# EAGLE library part YB-ESP32-S3-DRV (library yb-esp32-s3-drv)
Yellobyte YB-ESP32-S3-DRV (ESP32S3 8-channel driver development board) Source: github.com/yellobyte <https://github.com/yellobyte/ESP32-DevBoards-Getting-Started/tree/main/boards/YB-ESP32-S3-DRV>
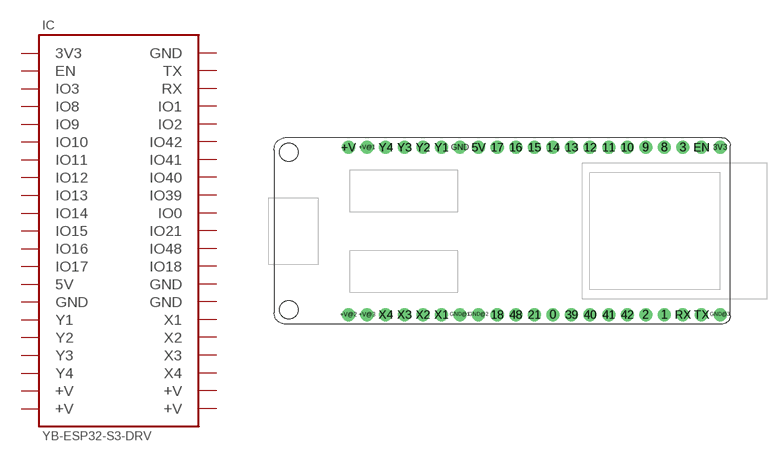
[diagram p0: symbol with the pads of YB-ESP32-S3-DRV; footprint YB-ESP32-S3-DRV]

Designator prefix IC

## YB-ESP32-S3-DRV  [YB-ESP32-S3-DRV]
0  IO0
1  IO1
2  IO2
3  IO3
3V3  3V3  pwr
5V  5V  pwr
8  IO8
9  IO9
10  IO10
11  IO11
12  IO12
13  IO13
14  IO14
15  IO15
16  IO16
17  IO17
18  IO18
21  IO21
39  IO39
40  IO40
41  IO41
42  IO42
48  IO48
+V  +V  pwr
+V@1  +V  pwr
+V@2  +V  pwr
+V@3  +V  pwr
EN  EN
GND  GND  pwr
GND@1  GND  pwr
GND@2  GND  pwr
GND@3  GND  pwr
RX  RX
TX  TX
X1  X1  pwr
X2  X2  pwr
X3  X3  pwr
X4  X4  pwr
Y1  Y1  pwr
Y2  Y2  pwr
Y3  Y3  pwr
Y4  Y4  pwr

## Footprint YB-ESP32-S3-DRV (pad centres in mm)
drill 1.016 pad 1.778: 0 38.097,1.265; 1 53.337,1.265; 2 50.797,1.265; 3 55.877,24.125; 3V3 60.957,24.125; 5V 27.937,24.125; 8 53.337,24.125; 9 50.797,24.125; 10 48.257,24.125; 11 45.717,24.125; 12 43.177,24.125; 13 40.637,24.125; 14 38.097,24.125; 15 35.557,24.125; 16 33.017,24.125; 17 30.477,24.125; 18 30.477,1.265; 21 35.557,1.265; 39 40.637,1.265; 40 43.177,1.265; 41 45.717,1.265; 42 48.257,1.265; 48 33.017,1.265; +V 10.157,24.125; +V@1 12.697,24.125; +V@2 10.157,1.265; +V@3 12.697,1.265; EN 58.417,24.125; GND 25.397,24.125; GND@1 25.397,1.265; GND@2 27.937,1.265; GND@3 60.957,1.265; RX 55.877,1.265; TX 58.417,1.265; X1 22.857,1.265; X2 20.317,1.265; X3 17.777,1.265; X4 15.237,1.265; Y1 22.857,24.125; Y2 20.317,24.125; Y3 17.777,24.125; Y4 15.237,24.125